# EAGLE library part REG_5V_8SOIC (library MAAV)
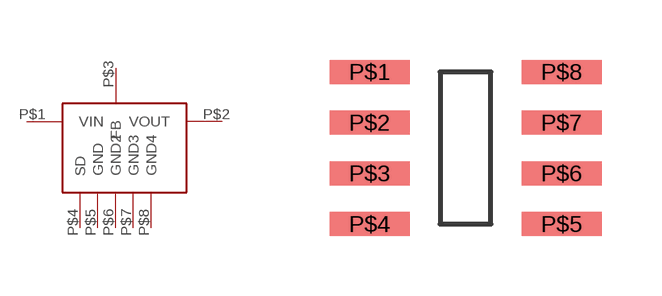
[diagram p5: symbol with the pads of 8-SOIC; footprint 8-SOIC]

Designator prefix -

## REG_5V_8SOIC  [8-SOIC]
P$1  VIN
P$2  VOUT
P$3  FB
P$4  SD
P$5  GND
P$6  GND2
P$7  GND3
P$8  GND4

## Footprint 8-SOIC (pad centres in mm)
smd 2 x 0.6: P$1 -2.4,1.905; P$2 -2.4,0.635; P$3 -2.4,-0.635; P$4 -2.4,-1.905; P$5 2.4,-1.905; P$6 2.4,-0.635; P$7 2.4,0.635; P$8 2.4,1.905